# Altium integrated library LTST-C191KGKT.IntLib: 1 symbol
Pins are listed as number, name and electrical type; pins without a type are passive.

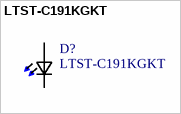
[diagram p0: symbol LTST-C191KGKT]

## LTST-C191KGKT
designator D?
/ Green 571nm LED Indication - Discrete 2V 0603 _1608 Metric_ /; MF: Lite-On Inc.; Digi-Key_Part_Number: 160-1446-1-ND; MP: LTST-C191KGKT; SnapEDA_Link: https://www.snapeda.com/parts/LTST-C191KGKT/Lite-On%20Inc./view-part/48565/?ref=snap; Package: 0603 Lite-On; Digi-Key_Purchase_URL: https://www.digikey.com/product-detail/en/lite-on-inc/LTST-C191KGKT/160-1446-1-ND/386834?utm_source=snapeda&utm_medium=aggregator&utm_campaign=symbol; Value: *
footprint *0603
pins: 1 K2, 2 A2